# EAGLE library part MCP3304-CI/P (library cpsmv)
A/D Converter
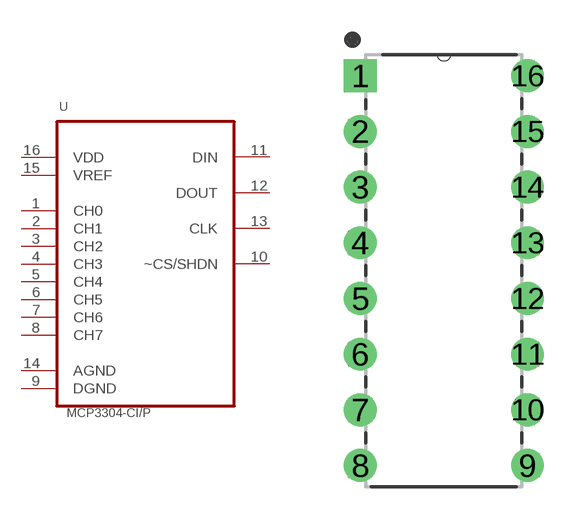
[diagram p5: symbol with the pads of DIP254P762X533-16; footprint DIP254P762X533-16]

Designator prefix U

## MCP3304-CI/P (DATASHEET_LINK: http://ww1.microchip.com/downloads/en/DeviceDoc/21697F.pdf; MANUFACTURER: Microchip; MANUFACTURER_PN: MCP3304-CI/P; PACKAGE: DIP-16; SUPPLIER: Digi-Key; SUPPLIER_PN: MCP3304-CI/P-ND)  [DIP254P762X533-16]
1  CH0  in
2  CH1  in
3  CH2  in
4  CH3  in
5  CH4  in
6  CH5  in
7  CH6  in
8  CH7  in
9  DGND  pas
10  ~CS/SHDN  in
11  DIN  in
12  DOUT  out
13  CLK  in
14  AGND  pas
15  VREF  pwr
16  VDD  pwr

## Footprint DIP254P762X533-16 (pad centres in mm)
drill 0.991 square: 1 -7.62,17.78
drill 0.991: 2 -7.62,15.24; 3 -7.62,12.7; 4 -7.62,10.16; 5 -7.62,7.62; 6 -7.62,5.08; 7 -7.62,2.54; 8 -7.62,0; 9 0,0; 10 0,2.54; 11 0,5.08; 12 0,7.62; 13 0,10.16; 14 0,12.7; 15 0,15.24; 16 0,17.78